# EAGLE library part MNR04MRAPJ221 (library MNR04MRAPJ221)
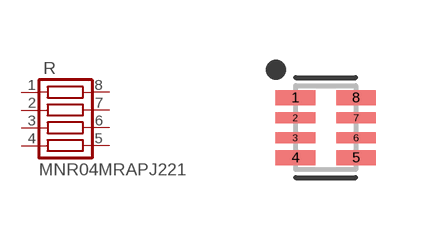
[diagram p0: symbol with the pads of RESCAXS50P200X150X50-8N; footprint RESCAXS50P200X150X50-8N]

Designator prefix R

## MNR04MRAPJ221MNR04  [RESCAXS50P200X150X50-8N]
1  1  pas
2  2  pas
3  3  pas
4  4  pas
5  5  pas
6  6  pas
7  7  pas
8  8  pas

## Footprint RESCAXS50P200X150X50-8N (pad centres in mm)
8-Chiparray 2-Side Convex, 0.50 mm pitch, 2.00 X 1.50 X 0.50 mm body 8-pin Chiparray 2-Side Convex package with 0.50 mm pitch with body size 2.00 X 1.50 X 0.50 mm
smd 0.992 x 0.372: 1 -0.76,0.75; 4 -0.76,-0.75; 5 0.76,-0.75; 8 0.76,0.75
smd 0.992 x 0.272: 2 -0.76,0.25; 3 -0.76,-0.25; 6 0.76,-0.25; 7 0.76,0.25